# EAGLE library part SL-811 (library kamiki)
SL-811HS/HST-AC Embedded USB Host/Slave Controller
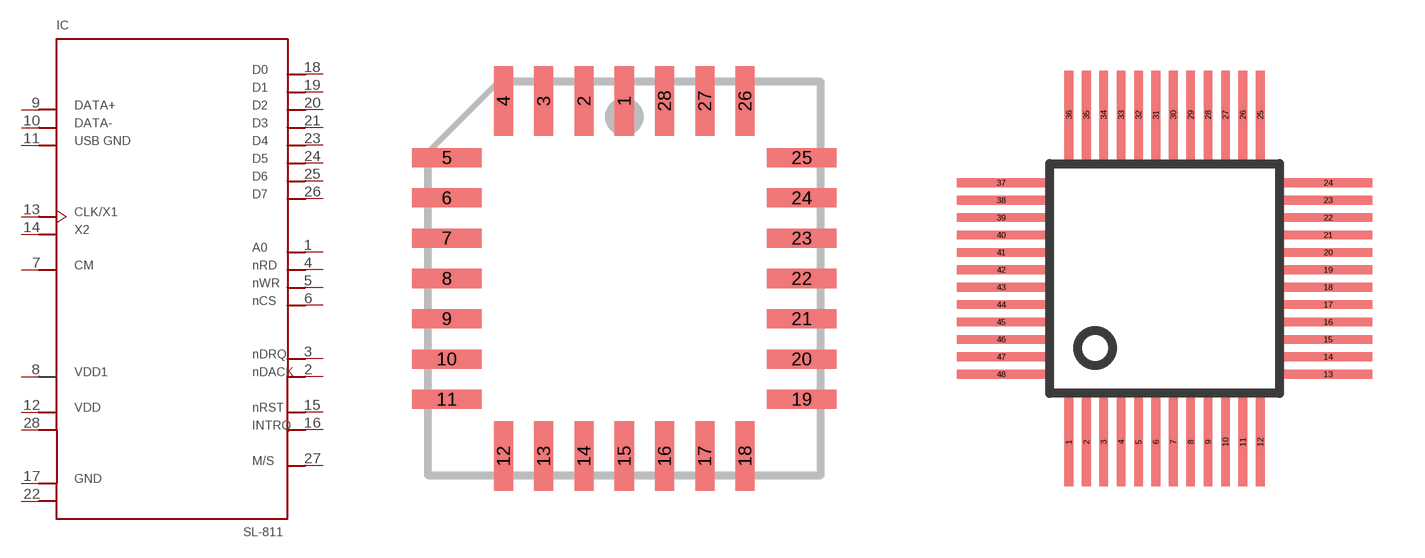
[diagram p26: symbol with the pads of PLCC28; footprints PLCC28, TQFP48_7X7]

Designator prefix IC

## SL-811HS  [PLCC28]
1  A0  in
2  NDACK  in
3  NDRQ  out
4  NRD  in
5  NWR  in
6  NCS  in
7  CM  in
8  USB_PWR  pwr
9  DATA+
10  DATA-
11  USB_GND  pwr
12  VDD  pwr
13  CLK/X1
14  X2
15  NRST  in
16  INTRQ  out
17  GND  pwr
18  D0
19  D1
20  D2
21  D3
22  GND_0  pwr
23  D4
24  D5
25  D6
26  D7
27  M/S  in
28  VDD_0  pwr

## SL-811HST-AC  [TQFP48_7X7]
3  NWR  in
4  NCS  in
5  CM  in
6  USB_PWR  pwr
7  DATA+
8  DATA-
9  USB_GND  pwr
15  VDD  pwr
16  CLK/X1
17  X2
18  NRST  in
19  INTRQ  out
20  GND  pwr
21  D0
27  D1
28  D2
29  D3
30  GND_0  pwr
31  D4
32  D5
33  D6
39  D7
40  M/S  in
41  VDD_0  pwr
42  A0  in
43  NDACK  in
44  NDRQ  out
45  NRD  in

## SL-811  [PLCC-S28]
Pads as for PLCC28

## Footprint PLCC28 (pad centres in mm)
Plastic Leaded Chip Carrier IPC standard
smd 0.6 x 2.2: 1 0,5.6; 2 -1.27,5.6; 3 -2.54,5.6; 4 -3.81,5.6; 12 -3.81,-5.6; 13 -2.54,-5.6; 14 -1.27,-5.6; 15 0,-5.6; 16 1.27,-5.6; 17 2.54,-5.6; 18 3.81,-5.6; 26 3.81,5.6; 27 2.54,5.6; 28 1.27,5.6
smd 2.2 x 0.6: 5 -5.6,3.81; 6 -5.6,2.54; 7 -5.6,1.27; 8 -5.6,0; 9 -5.6,-1.27; 10 -5.6,-2.54; 11 -5.6,-3.81; 19 5.6,-3.81; 20 5.6,-2.54; 21 5.6,-1.27; 22 5.6,0; 23 5.6,1.27; 24 5.6,2.54; 25 5.6,3.81

## Footprint TQFP48_7X7 (pad centres in mm)
Thin Quad Flat Package from SMD-IPC.lbr SQFP48 7x7 modefied for OLIMEX.
smd 0.25 x 2.54: 1 -2.75,-4.7; 2 -2.25,-4.7; 3 -1.75,-4.7; 4 -1.25,-4.7; 5 -0.75,-4.7; 6 -0.25,-4.7; 7 0.25,-4.7; 8 0.75,-4.7; 9 1.25,-4.7; 10 1.75,-4.7; 11 2.25,-4.7; 12 2.75,-4.7; 25 2.75,4.7; 26 2.25,4.7; 27 1.75,4.7; 28 1.25,4.7; 29 0.75,4.7; 30 0.25,4.7; 31 -0.25,4.7; 32 -0.75,4.7; 33 -1.25,4.7; 34 -1.75,4.7; 35 -2.25,4.7; 36 -2.75,4.7
smd 2.54 x 0.25: 13 4.7,-2.75; 14 4.7,-2.25; 15 4.7,-1.75; 16 4.7,-1.25; 17 4.7,-0.75; 18 4.7,-0.25; 19 4.7,0.25; 20 4.7,0.75; 21 4.7,1.25; 22 4.7,1.75; 23 4.7,2.25; 24 4.7,2.75; 37 -4.7,2.75; 38 -4.7,2.25; 39 -4.7,1.75; 40 -4.7,1.25; 41 -4.7,0.75; 42 -4.7,0.25; 43 -4.7,-0.25; 44 -4.7,-0.75; 45 -4.7,-1.25; 46 -4.7,-1.75; 47 -4.7,-2.25; 48 -4.7,-2.75

## Footprint PLCC-S28 (pad centres in mm)
Plastic Leaded Chip Carrier Socked
drill 0.813 round: 1 1.27,3.81
drill 0.813 octagon: 2 -1.27,6.35; 3 -1.27,3.81; 4 -3.81,6.35; 5 -6.35,3.81; 6 -3.81,3.81; 7 -6.35,1.27; 8 -3.81,1.27; 9 -6.35,-1.27; 10 -3.81,-1.27; 11 -6.35,-3.81; 12 -3.81,-6.35; 13 -3.81,-3.81; 14 -1.27,-6.35; 15 -1.27,-3.81; 16 1.27,-6.35; 17 1.27,-3.81; 18 3.81,-6.35; 19 6.35,-3.81; 20 3.81,-3.81; 21 6.35,-1.27; 22 3.81,-1.27; 23 6.35,1.27; 24 3.81,1.27; 25 6.35,3.81; 26 3.81,6.35; 27 3.81,3.81; 28 1.27,6.35